# Altium footprint library level_shifter_pcbLib.PcbLib: 3 footprints
Each footprint in its own frame and in the unit in brackets; x right, y up, seen from the top. Pads: shape width x height; smd on the part's side, far side on the other; paste and mask are expansions set on the pad; w line width, h text height; cw(c..) or ccw(c..) is an arc to the next point about the centre after c.
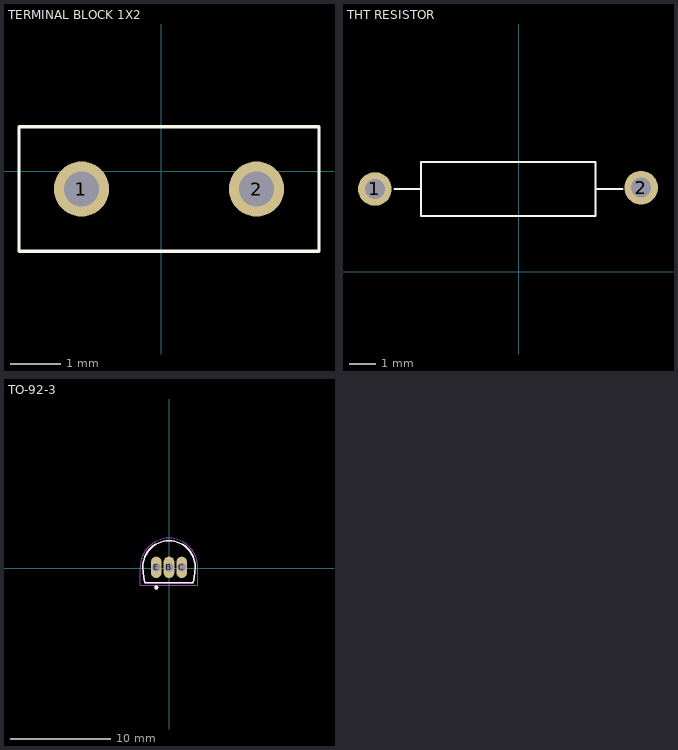
[diagram p0: the footprints below, top view; thin cyan lines are the x and y axes]

## TERMINAL BLOCK 1X2 [mm]
pads (2):
  round 1.1 hole 0.7: 1(-1.595,-0.357) 2(1.905,-0.357)
Top Overlay:
  lines w0.07: -2.845,-1.607 -2.845,0.893 3.155,0.893 3.155,-1.607 -2.845,-1.607
3D body "Screw Terminal Block 3.5mm Blue 2-way.step": height 8.4, standoff -2, extent -3.497,-3.781 3.803,3.019

## THT RESISTOR [mm]
pads (2):
  round 1.258 hole 0.75: 1(-5.366,3.08) 2(4.559,3.13)
Top Overlay:
  lines w0.07: -4.641,3.08 -3.641,3.08 ; 2.859,3.08 3.859,3.08 ; -3.641,3.08 -3.641,4.08 2.859,4.08 2.859,2.08 -3.641,2.08 -3.641,3.08
3D body "User Library-MF0_25W_6mm_10mm_22ohm.step": height 2.6, standoff -1.5, extent -5.666,2.08 4.784,4.08

## TO-92-3 [mm]
pads (3):
  oval 1.07x2.14 hole 0.85: B(0,0.06) C(1.27,0.06) E(-1.27,0.06)
Top Overlay:
  circle w0.2: c-1.27,-1.94 r0.1
  lines w0.127: -2.606,0.093 ccw(c6.178,0.4) -2.42,-1.427 ; -2.605,0.046 cw(c0.032,0.092) -0.014,2.73 ; -2.412,-1.46 2.412,-1.46 ; 0.014,2.73 cw(c-0.032,0.092) 2.605,0.046 ; 2.42,-1.427 ccw(c-6.178,0.4) 2.606,0.093
Mechanical 13:
  circle w0.2: c-1.27,-1.94 r0.1
  lines w0.127: -2.606,0.093 ccw(c6.178,0.4) -2.42,-1.427 ; -2.605,0.046 cw(c0.032,0.092) -0.014,2.73 ; -2.412,-1.46 2.412,-1.46 ; 0.014,2.73 cw(c-0.032,0.092) 2.605,0.046 ; 2.42,-1.427 ccw(c-6.178,0.4) 2.606,0.093
Mechanical 15:
  lines w0.05: -2.855,0.042 cw(c0.032,0.092) -0.018,2.98 ; -2.855,0.06 -2.855,-1.71 2.855,-1.71 2.855,0.06 ; 0.018,2.98 cw(c-0.032,0.092) 2.855,0.042
3D body: height 1.84, standoff -1.84, extent 2.54,8.509 2.54,8.509
3D body: height 5.33, standoff -10, extent 0.254,2.032 0.254,2.032
3D body "User Library-BC327 Transistors PNP TO-92 3L (2,54mm).step": height 8.63, standoff -10.89, extent -2.372,-1.409 2.388,2.221